# Altium schematic symbol library Header 2X6.SchLib: 1 symbol
Pins are listed as number, name and electrical type; pins without a type are passive.

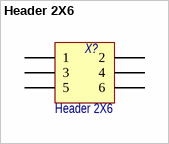
[diagram p0: symbol Header 2X6]

## Header 2X6
designator X?
Header, 6-Pin, Dual row; Потребление, Вт: 0,0; Назначение: Header, 6-Pin, Dual row; Наименование: Header 2X6
footprint PLS-6 (2.54mm PIN HEADER R/A)
footprint PBD-6
footprint PBD2-6
footprint PLD2-6
pins: 1, 2, 3, 4, 5, 6